# Altium footprint library SMD Res.PcbLib: 10 footprints
Each footprint in its own frame and in the unit in brackets; x right, y up, seen from the top. Pads: shape width x height; smd on the part's side, far side on the other; paste and mask are expansions set on the pad; w line width, h text height; cw(c..) or ccw(c..) is an arc to the next point about the centre after c.
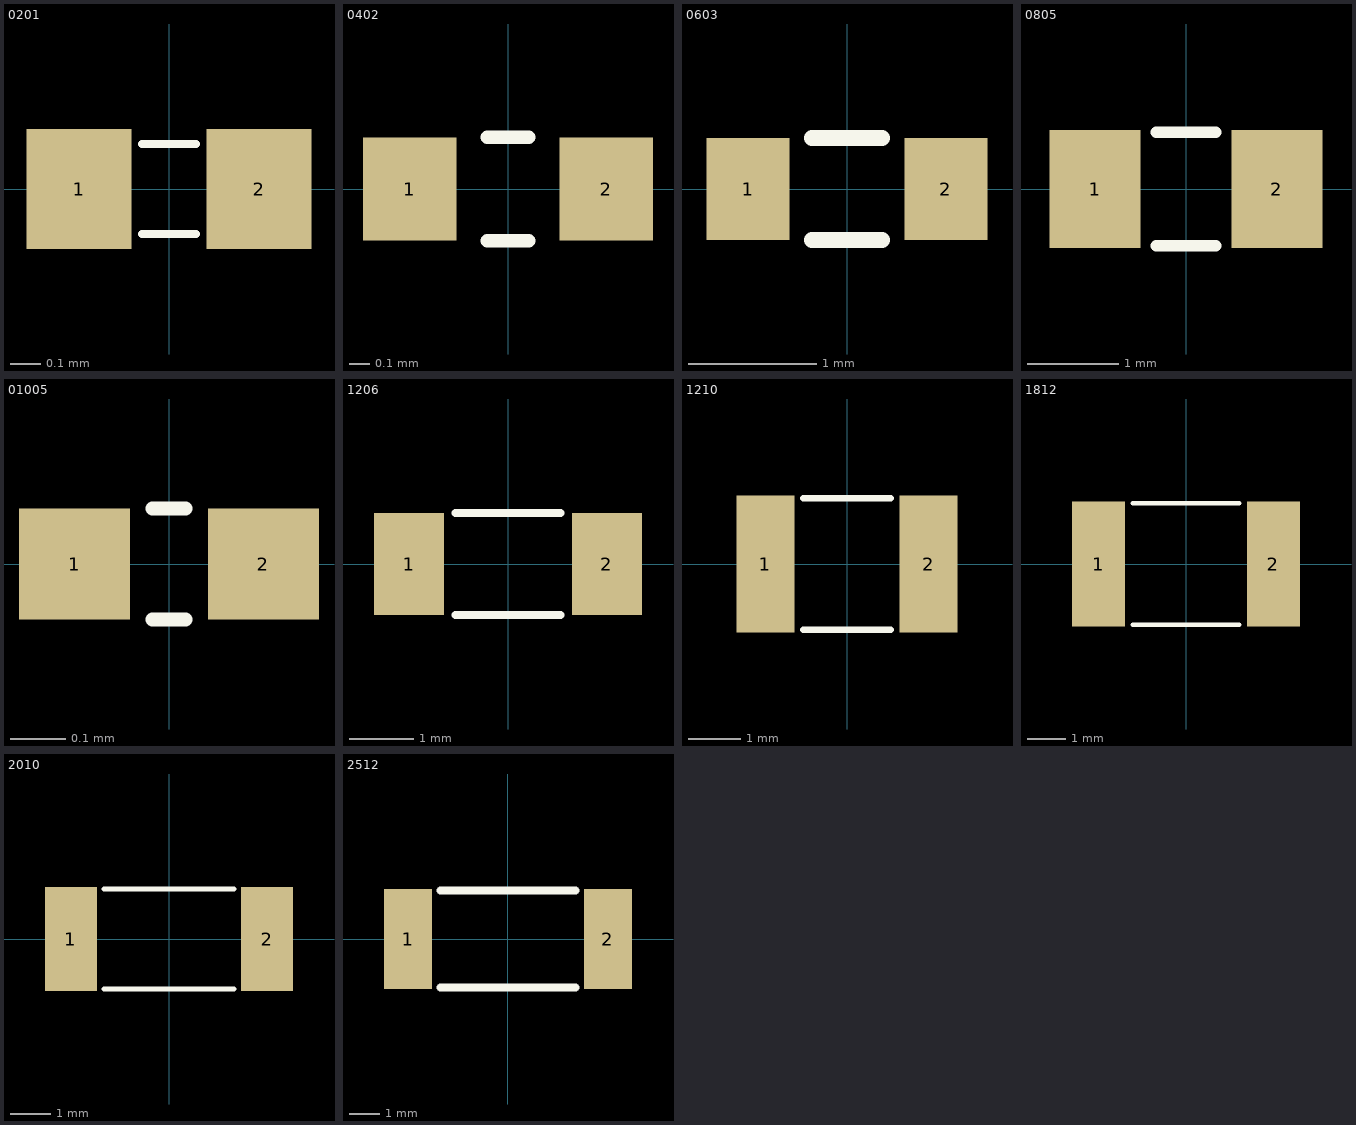
[diagram p0: the footprints below, top view; thin cyan lines are the x and y axes]

## 0201 [mm]
pads (2):
  rect 0.35x0.4 smd mask+0.02: 1(-0.3,0) 2(0.3,0)
Top Overlay:
  lines w0.025: -0.09,-0.15 0.09,-0.15 ; -0.09,0.15 0.09,0.15
3D body "R0201.step": height 0.23, standoff 0, extent -0.3,-0.15 0.3,0.15

## 0402 [mm]
pads (2):
  rect 0.45x0.5 smd: 1(-0.475,0) 2(0.475,0)
Top Overlay:
  lines w0.064: -0.1,-0.25 0.1,-0.25 ; -0.1,0.25 0.1,0.25
3D body "R0402.step": height 0.35, standoff 0, extent -0.5,-0.25 0.5,0.25

## 0603 [mm]
pads (2):
  rect 0.65x0.8 smd: 1(-0.775,0) 2(0.775,0)
Top Overlay:
  lines w0.127: -0.275,-0.4 0.275,-0.4 ; -0.275,0.4 0.275,0.4
3D body "R0603.step": height 0.45, standoff 0, extent -0.8,-0.4 0.8,0.4

## 0805 [mm]
pads (2):
  rect 1x1.3 smd: 1(-1,0) 2(1,0)
Top Overlay:
  lines w0.127: -0.325,-0.625 0.325,-0.625 ; -0.325,0.625 0.325,0.625
3D body "R0805.step": height 0.5, standoff 0, extent -1,-0.625 1,0.625

## 01005 [mm]
pads (2):
  rect 0.2x0.2 smd mask+0.02: 1(-0.17,0) 2(0.17,0)
Top Overlay:
  lines w0.025: -0.03,-0.1 0.03,-0.1 ; -0.03,0.1 0.03,0.1
3D body "R01005.stp": height 0.13, standoff 0, extent -0.2,-0.1 0.2,0.1

## 1206 [mm]
pads (2):
  rect 1.1x1.6 smd: 1(-1.55,0) 2(1.55,0)
Top Overlay:
  lines w0.127: -0.825,-0.8 0.825,-0.8 ; -0.825,0.8 0.825,0.8
3D body "R1206.step": height 0.6, standoff 0, extent -1.6,-0.8 1.6,0.8

## 1210 [mm]
pads (2):
  rect 1.1x2.6 smd: 1(-1.55,0) 2(1.55,0)
Top Overlay:
  lines w0.127: -0.825,-1.25 0.825,-1.25 ; -0.825,1.25 0.825,1.25
3D body "R1210.step": height 0.6, standoff 0, extent -1.6,-1.25 1.6,1.25

## 1812 [mm]
pads (2):
  rect 1.4x3.3 smd: 1(-2.3,0) 2(2.3,0)
Top Overlay:
  lines w0.127: -1.4,-1.6 1.4,-1.6 ; -1.4,1.6 1.4,1.6
3D body "R1812.step": height 0.6, standoff 0, extent -2.25,-1.6 2.25,1.6

## 2010 [mm]
pads (2):
  rect 1.3x2.6 smd: 1(-2.45,0) 2(2.45,0)
Top Overlay:
  lines w0.127: -1.625,-1.25 1.625,-1.25 ; -1.625,1.25 1.625,1.25
3D body "R2010.step": height 0.6, standoff 0, extent -2.5,-1.25 2.5,1.25

## 2512 [mm]
pads (2):
  rect 1.6x3.3 smd mask+0.102: 1(-3.3,0) 2(3.3,0)
Top Overlay:
  lines w0.254: -2.225,-1.6 2.225,-1.6 ; -2.225,1.6 2.225,1.6
3D body "R2512.step": height 0.6, standoff 0, extent -3.2,-1.6 3.2,1.6